# Altium footprint library 开发板设计库封装.PcbLib: 59 footprints (part 1 of 4)
Each footprint in its own frame and in the unit in brackets; x right, y up, seen from the top. Pads: shape width x height; smd on the part's side, far side on the other; paste and mask are expansions set on the pad; w line width, h text height; cw(c..) or ccw(c..) is an arc to the next point about the centre after c.
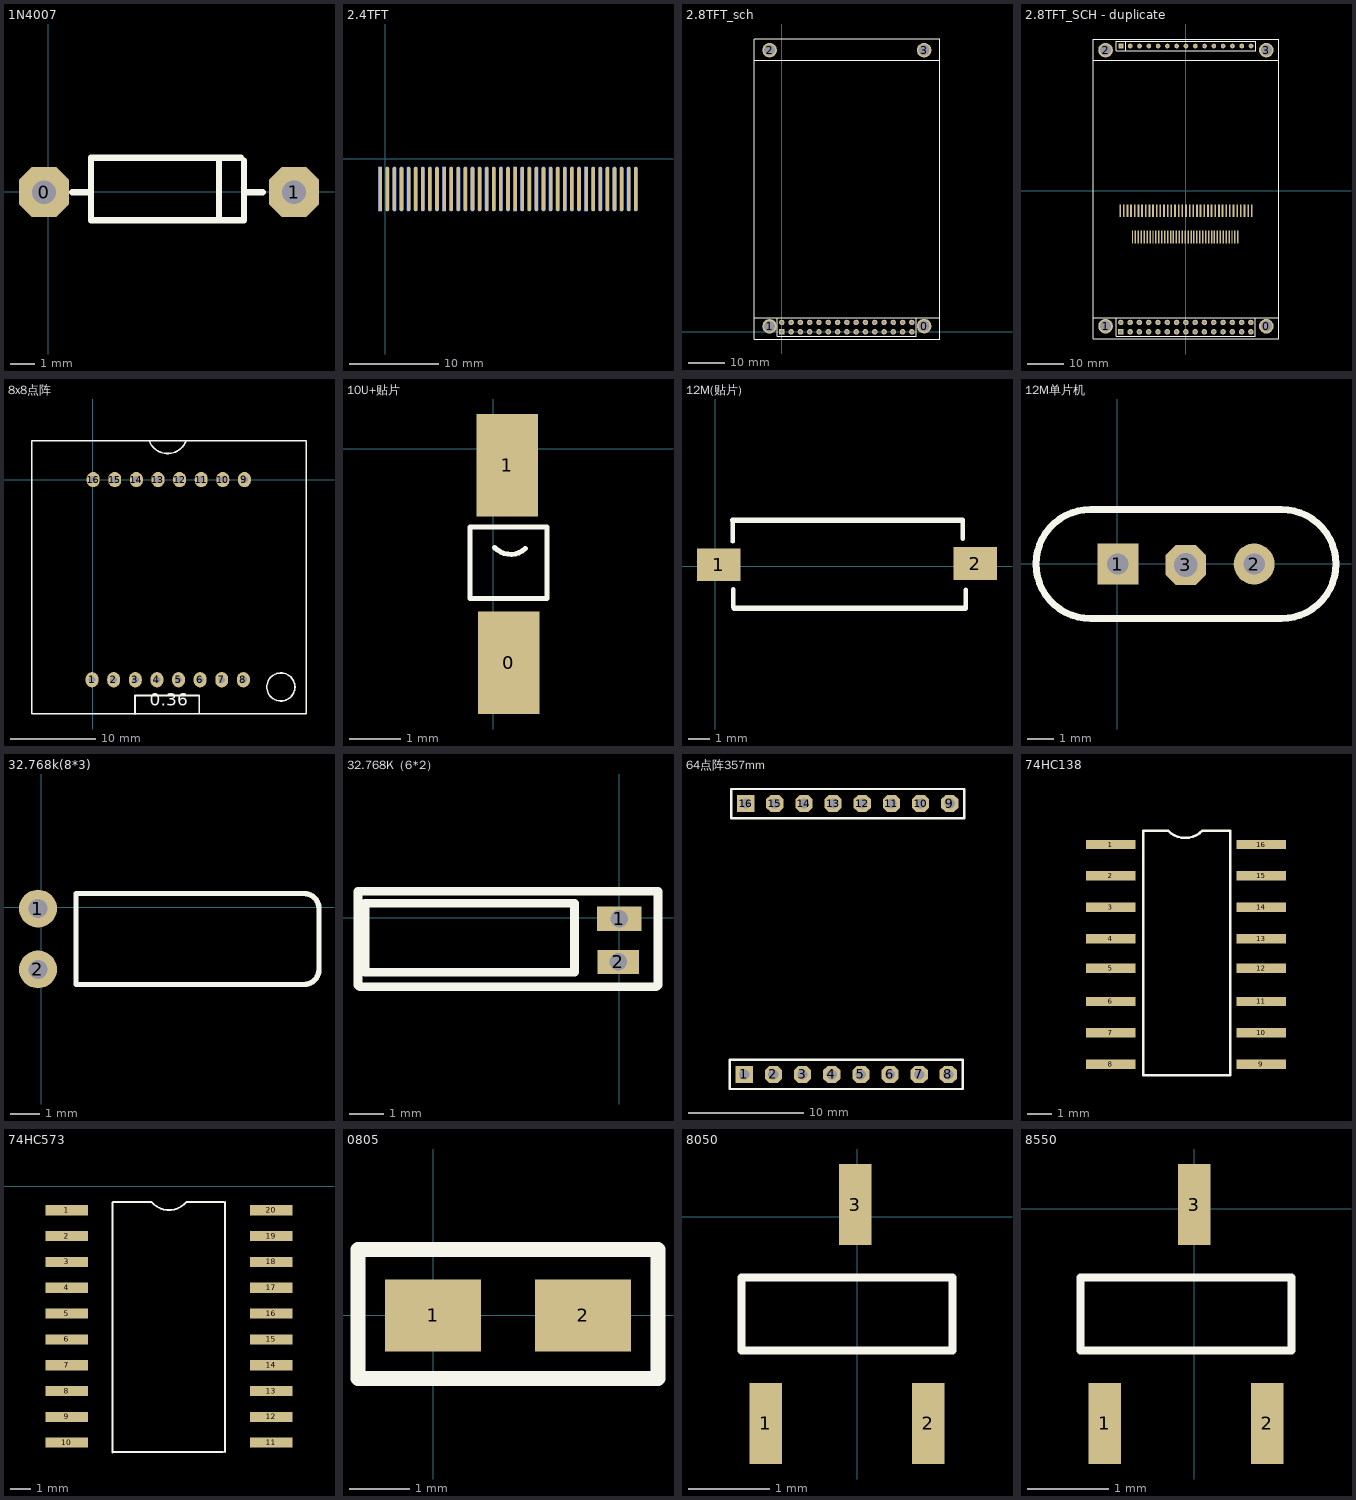
[diagram p0: the footprints below, top view; thin cyan lines are the x and y axes]

## 1N4007 [mil]
pads (2):
  oct 80x80 hole 38: 0(-6.54,-0.59) 1(393.46,-0.59)
Top Overlay:
  lines w10: 38.46,-0.59 68.46,-0.59 ; 273.46,-45.59 273.46,54.41 ; 308.46,54.41 93.46,54.41 68.46,54.41 68.46,-45.59 93.46,-45.59 313.46,-45.59 313.46,49.41 ; 318.46,-0.59 343.46,-0.59

## 2.4TFT [mm]
pads (74):
  rect 0.4x5 smd: A1(-0.55,-3.4) A10(6.65,-3.4) A20(14.65,-3.4) A30(22.65,-3.4)
  oval 0.4x5 smd: A2(0.25,-3.4) A3(1.05,-3.4) A4(1.85,-3.4) A5(2.65,-3.4) A6(3.45,-3.4) A7(4.25,-3.4) A8(5.05,-3.4) A9(5.85,-3.4) A11(7.45,-3.4) A12(8.25,-3.4) A13(9.05,-3.4) A14(9.85,-3.4) A15(10.65,-3.4) A16(11.45,-3.4) A17(12.25,-3.4) A18(13.05,-3.4) A19(13.85,-3.4) A21(15.45,-3.4) A22(16.25,-3.4) A23(17.05,-3.4) A24(17.85,-3.4) A25(18.65,-3.4) A26(19.45,-3.4) A27(20.25,-3.4) A28(21.05,-3.4) A29(21.85,-3.4) A31(23.45,-3.4) A32(24.25,-3.4) A33(25.05,-3.4) A34(25.85,-3.4) A35(26.65,-3.4) A36(27.45,-3.4) A37(28.25,-3.4)
  rect 0.4x5 smd far side: B1(-0.55,-3.4) B10(6.65,-3.4) B20(14.65,-3.4) B30(22.65,-3.4)
  oval 0.4x5 smd far side: B2(0.25,-3.4) B3(1.05,-3.4) B4(1.85,-3.4) B5(2.65,-3.4) B6(3.45,-3.4) B7(4.25,-3.4) B8(5.05,-3.4) B9(5.85,-3.4) B11(7.45,-3.4) B12(8.25,-3.4) B13(9.05,-3.4) B14(9.85,-3.4) B15(10.65,-3.4) B16(11.45,-3.4) B17(12.25,-3.4) B18(13.05,-3.4) B19(13.85,-3.4) B21(15.45,-3.4) B22(16.25,-3.4) B23(17.05,-3.4) B24(17.85,-3.4) B25(18.65,-3.4) B26(19.45,-3.4) B27(20.25,-3.4) B28(21.05,-3.4) B29(21.85,-3.4) B31(23.45,-3.4) B32(24.25,-3.4) B33(25.05,-3.4) B34(25.85,-3.4) B35(26.65,-3.4) B36(27.45,-3.4) B37(28.25,-3.4)

## 2.8TFT_sch [mm]
pads (34):
  round 4 hole 3: 0(38.9,1.575) 1(-3.35,1.5) 2(-3.35,77) 3(38.9,77)
  rect 1.5x1.5 hole 0.9: 1(0.006,0.027)
  round 1.5 hole 0.9: 2(0.006,2.567) 3(2.546,0.027) 4(2.546,2.567) 5(5.086,0.027) 6(5.086,2.567) 7(7.626,0.027) 8(7.626,2.567) 9(10.166,0.027) 10(10.166,2.567) 11(12.706,0.027) 12(12.706,2.567) 13(15.246,0.027) 14(15.246,2.567) 15(17.786,0.027) 16(17.786,2.567) 17(20.326,0.027) 18(20.326,2.567) 19(22.866,0.027) 20(22.866,2.567) 21(25.406,0.027) 22(25.406,2.567) 23(27.946,0.027) 24(27.946,2.567) 25(30.486,0.027) 26(30.486,2.567) 27(33.026,0.027) 28(33.026,2.567) 29(35.566,0.027) 30(35.566,2.567)
Top Overlay:
  lines w0.2: -7.575,80 -7.575,3.825 ; -7.575,80.05 43.225,80.05 43.225,-1.95 -7.575,-1.95 -7.575,3.825 ; -7.55,74.275 43.225,74.275 ; -1.3,3.825 -7.575,3.825 ; 36.75,3.837 -1.264,3.837 -1.264,-1.243 36.75,-1.243 36.75,3.825 43.2,3.825

## 2.8TFT_SCH - duplicate [mm]
pads (123):
  round 4 hole 3: 0(21.975,-36.963) 1(-21.975,-36.963) 2(-21.975,38.487) 3(21.975,38.487)
  rect 1.5x1.5 hole 0.9: 1(-17.794,-38.486)
  round 1.5 hole 0.9: 2(-17.794,-35.946) 3(-15.254,-38.486) 4(-15.254,-35.946) 5(-12.714,-38.486) 6(-12.714,-35.946) 7(-10.174,-38.486) 8(-10.174,-35.946) 9(-7.634,-38.486) 10(-7.634,-35.946) 11(-5.094,-38.486) 12(-5.094,-35.946) 13(-2.554,-38.486) 14(-2.554,-35.946) 15(-0.014,-38.486) 16(-0.014,-35.946) 17(2.526,-38.486) 18(2.526,-35.946) 19(5.066,-38.486) 20(5.066,-35.946) 21(7.606,-38.486) 22(7.606,-35.946) 23(10.146,-38.486) 24(10.146,-35.946) 25(12.686,-38.486) 26(12.686,-35.946) 27(15.226,-38.486) 28(15.226,-35.946) 29(17.766,-38.486) 30(17.766,-35.946)
  rect 1.27x1.27 hole 0.5: 31(-17.758,39.621)
  round 1.27 hole 0.5: 32(-15.218,39.621) 33(-12.678,39.621) 34(-10.138,39.621) 35(-7.598,39.621) 36(-5.058,39.621) 37(-2.518,39.621) 38(0.022,39.621) 39(2.562,39.621) 40(5.102,39.621) 41(7.642,39.621) 42(10.182,39.621) 43(12.722,39.621) 44(15.262,39.621) 45(17.802,39.621)
  rect 0.473x3.5 smd: 46(-17.982,-5.386) 47(-16.982,-5.386) 48(-15.982,-5.386) 49(-14.982,-5.386) 50(-13.982,-5.386) 51(-12.982,-5.386) 52(-11.982,-5.386) 53(-10.982,-5.386) 54(-9.982,-5.386) 55(-8.982,-5.386) 56(-7.982,-5.386) 57(-6.982,-5.386) 58(-5.982,-5.386) 59(-4.982,-5.386) 60(-3.982,-5.386) 61(-2.982,-5.386) 62(-1.982,-5.386) 63(-0.982,-5.386) 64(0.018,-5.386) 65(1.018,-5.386) 66(2.018,-5.386) 67(3.018,-5.386) 68(4.018,-5.386) 69(5.018,-5.386) 70(6.018,-5.386) 71(7.018,-5.386) 72(8.018,-5.386) 73(9.018,-5.386) 74(10.018,-5.386) 75(11.018,-5.386) 76(12.018,-5.386) 77(13.018,-5.386) 78(14.018,-5.386) 79(15.018,-5.386) 80(16.018,-5.386) 81(17.018,-5.386) 82(18.018,-5.386)
  rect 0.4x3.5 smd: 46(-14.6,-12.55) 47(-13.8,-12.55) 48(-13,-12.55) 49(-12.2,-12.55) 50(-11.4,-12.55) 51(-10.6,-12.55) 52(-9.8,-12.55) 53(-9,-12.55) 54(-8.2,-12.55) 55(-7.4,-12.55) 56(-6.6,-12.55) 57(-5.8,-12.55) 58(-5,-12.55) 59(-4.2,-12.55) 60(-3.4,-12.55) 61(-2.6,-12.55) 62(-1.8,-12.55) 63(-1,-12.55) 64(-0.2,-12.55) 65(0.6,-12.55) 66(1.4,-12.55) 67(2.2,-12.55) 68(3,-12.55) 69(3.8,-12.55) 70(4.6,-12.55) 71(5.4,-12.55) 72(6.2,-12.55) 73(7,-12.55) 74(7.8,-12.55) 75(8.6,-12.55) 76(9.4,-12.55) 77(10.2,-12.55) 78(11,-12.55) 79(11.8,-12.55) 80(12.6,-12.55) 81(13.4,-12.55) 82(14.2,-12.55)
Top Overlay:
  lines w0.2: -25.375,41.487 -25.375,-34.688 ; -25.375,41.537 25.425,41.537 25.425,-40.464 -25.375,-40.464 -25.375,-34.688 ; -25.35,35.762 25.425,35.762 ; -19.1,-34.688 -25.375,-34.688 ; 18.95,-34.676 -19.064,-34.676 -19.064,-39.756 18.95,-39.756 18.95,-34.688 25.4,-34.688
  lines w0.254: -16.488,38.351 -16.488,40.891 ; -19.028,38.351 19.072,38.351 19.072,40.891 -19.028,40.891 -19.028,38.351
Top Solder:
  rectangle: -20.522,-7.225 -19.379,-3.496
  rectangle: 19.408,-7.2 20.678,-3.496

## 8x8点阵 [mil]
pads (16):
  oval 60x70 hole 32: 1(-3.54,-926.18) 2(96.46,-926.18) 3(196.46,-926.18) 4(296.46,-926.18) 5(396.46,-926.18) 6(496.46,-926.18) 7(596.46,-926.18) 8(696.46,-926.18) 9(701.38,0) 10(601.38,0) 11(501.38,0) 12(401.38,0) 13(301.38,0) 14(201.38,0) 15(101.38,0) 16(1.38,0)
Top Overlay:
  circle w7.87: c870.05,-959.65 r64.99
  lines w7.87: 194.88,-1084.65 194.88,-999.02 492.13,-999.02 492.13,-1081.69 ; 260.75,178.12 ccw(c345.81,211.93) 431.13,178.74 ; -282.48,-1083.66 987.2,-1083.66 987.2,179.13 -281.5,179.13 -282.48,178.15 -282.48,-1083.66
  text "0.36" at 262.8,-1067.91 h98.43

## 10U+贴片 [mm]
pads (2):
  rect 1.2x2 smd: 0(0.3,-4.175) 1(0.275,-0.325)
Top Overlay:
  lines w0.1: 0.025,-1.925 ccw(c0.338,-1.637) 0.625,-1.95 ; -0.45,-2.925 -0.45,-1.525 1.05,-1.525 1.05,-2.925 -0.45,-2.925

## 12M(贴片) [mm]
pads (2):
  rect 2x1.5 smd: 1(0.15,0.075)
  rect 2x1.524 smd: 2(12,0.125)
Top Overlay:
  lines w0.2: 0.8,1.15 0.8,2.075 ; 0.825,-1.875 0.825,-1.05 ; 11.425,1.275 11.425,2.15 ; 11.55,-1.9 11.55,-1.075
  lines w0.254: 0.8,2.125 11.4,2.125 ; 0.875,-1.925 11.525,-1.925

## 12M单片机 [mm]
pads (3):
  rect 1.524x1.524 hole 0.8: 1(0.02,-0.014)
  round 1.524 hole 0.8: 2(5.1,-0.014)
  oct 1.5x1.5 hole 0.889: 3(2.55,-0.05)
Top Overlay:
  lines w0.254: -0.996,-2.046 cw(c-0.996,-0.014) -0.996,2.018 6.116,2.018 cw(c6.116,-0.014) 6.116,-2.046 -0.996,-2.046

## 32.768k(8*3) [mm]
pads (2):
  round 1.27 hole 0.635: 1(-0.109,-0.051) 2(-0.109,-2.083)
Top Overlay:
  lines w0.178: 1.161,-2.591 8.781,-2.591 ccw(c8.781,-2.083) 9.289,-2.083 9.289,-0.051 ccw(c8.781,-0.051) 8.781,0.457 1.161,0.457 1.161,-2.591

## 32.768K（6*2） [mm]
pads (2):
  rect 1.3x0.7 hole 0.5: 1(0,-0.025)
  rect 1.2x0.7 hole 0.5: 2(-0.025,-1.275)
Top Overlay:
  lines w0.254: -3.5,-2 1.075,-2 1.125,-1.95 1.125,0.775 -7.575,0.775 -7.575,-1.95 -7.525,-2 -3.425,-2 ; -7.375,-1.575 -7.375,0.425 -1.3,0.425 -1.3,-1.575 -7.375,-1.575

## 64点阵357mm [mm]
pads (16):
  rect 1.5x1.5 hole 0.9: 1(-34.995,36.873) 16(-34.87,60.473)
  oct 1.5x1.5 hole 0.9: 2(-32.455,36.873) 3(-29.915,36.873) 4(-27.375,36.873) 5(-24.835,36.873) 6(-22.295,36.873) 7(-19.755,36.873) 8(-17.215,36.873) 9(-17.09,60.473) 10(-19.63,60.473) 11(-22.17,60.473) 12(-24.71,60.473) 13(-27.25,60.473) 14(-29.79,60.473) 15(-32.33,60.473)
Top Overlay:
  lines w0.2: -36.265,35.603 -36.265,38.143 -15.945,38.143 -15.945,35.603 -36.265,35.603 ; -36.14,59.203 -36.14,61.743 -15.82,61.743 -15.82,59.203 -36.14,59.203

## 74HC138 [mm]
pads (16):
  rect 2x0.38 smd: 1(6.654,11.553) 2(6.654,10.283) 3(6.654,9.013) 4(6.654,7.743) 5(6.654,6.553) 6(6.654,5.203) 7(6.654,3.933) 8(6.654,2.663) 9(12.754,2.663) 10(12.754,3.933) 11(12.754,5.203) 12(12.754,6.553) 13(12.754,7.743) 14(12.754,9.013) 15(12.754,10.283) 16(12.754,11.553)
Top Overlay:
  lines w0.1: 7.975,2.212 11.5,2.212 11.5,12.112 10.371,12.112 cw(c9.672,12.811) 8.974,12.112 7.975,12.112 7.975,2.212

## 74HC573 [mm]
pads (20):
  rect 2.1x0.5 smd: 1(6.05,-1.175) 2(6.05,-2.445) 3(6.05,-3.715) 4(6.05,-4.985) 5(6.05,-6.255) 6(6.05,-7.525) 7(6.05,-8.795) 8(6.05,-10.065) 9(6.05,-11.335) 10(6.05,-12.605) 11(16.1,-12.605) 12(16.1,-11.335) 13(16.1,-10.065) 14(16.1,-8.795) 15(16.1,-7.525) 16(16.1,-6.255) 17(16.1,-4.985) 18(16.1,-3.715) 19(16.1,-2.445) 20(16.1,-1.175)
Top Overlay:
  lines w0.1: 8.3,-13.1 8.3,-0.8 ; 8.325,-13.075 13.725,-13.075 ; 8.325,-0.775 10.222,-0.775 ; 10.223,-0.776 ccw(c11.074,-0.03) 11.925,-0.775 13.625,-0.775 ; 13.65,-0.775 13.75,-0.775 ; 13.825,-13.075 13.825,-0.775

## 0805 [mm]
pads (2):
  rect 1.6x1.2 smd: 1(0,0) 2(2.5,0)
Top Overlay:
  lines w0.254: -1.25,-1.05 -1.25,1.1 3.75,1.1 3.75,-1.05 -1.25,-1.05

## 8050 [mm]
pads (3):
  rect 0.4x1 smd: 1(-1.125,-2.55) 2(0.875,-2.55) 3(-0.025,0.15)
Top Overlay:
  lines w0.1: 1.175,-0.75 1.175,-0.75 ; 1.175,-0.75 -1.425,-0.75 -1.425,-1.65 1.175,-1.65 1.175,-0.75

## 8550 [mm]
pads (3):
  rect 0.4x1 smd: 1(-1.1,-2.65) 2(0.9,-2.65) 3(0,0.05)
Top Overlay:
  lines w0.1: 1.2,-0.85 1.2,-1.75 -1.4,-1.75 -1.4,-0.85 1.2,-0.85 ; 1.2,-0.85 1.2,-0.85